# Altium footprint library photounit (2).PCBLIB: 20 footprints (part 2 of 2)
Each footprint in its own frame and in the unit in brackets; x right, y up, seen from the top. Pads: shape width x height; smd on the part's side, far side on the other; paste and mask are expansions set on the pad; w line width, h text height; cw(c..) or ccw(c..) is an arc to the next point about the centre after c.
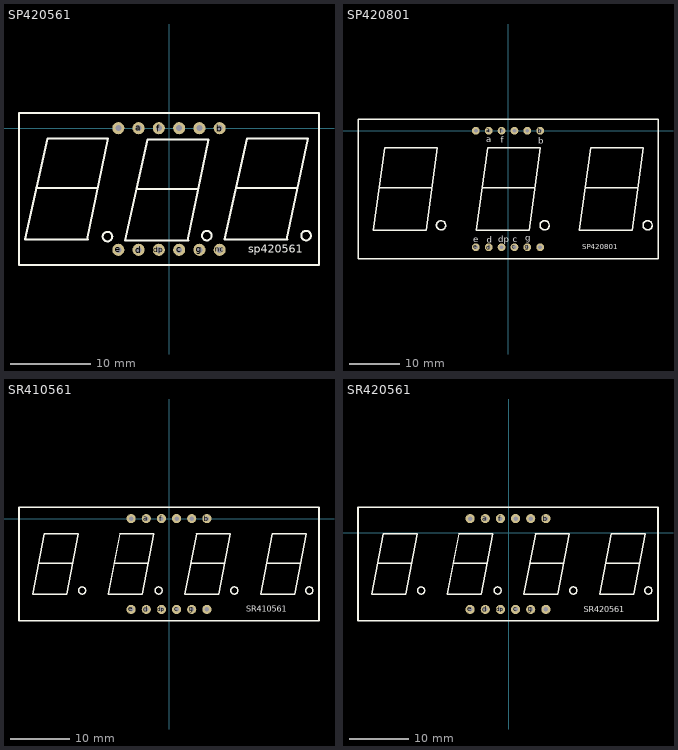
[diagram p1: the footprints below, top view; thin cyan lines are the x and y axes]

## SP420561 [mil]
pads (12):
  round 60 hole 30: a(-150,0) b(250,0) c(50,-600) com1(-250,0) com2(50,0) com3(150,0) d(-150,-600) dp(-50,-600) e(-250,-600) f(-50,0) g(150,-600) nc(250,-600)
TopOverlay:
  circle w10: c676.38,-530 r23.62
  circle w10: c186.38,-530 r23.62
  circle w10: c-303.62,-535 r23.62
  lines w10: -711.34,-550 -600,-50 -300,-50 -404.38,-550 ; -708.66,-550 -400,-550 ; -655,-295 -355,-295 ; -216.34,-555 -105,-55 195,-55 90.62,-555 ; -213.66,-555 95,-555 ; -160,-300 140,-300 ; 273.66,-550 385,-50 685,-50 580.62,-550 ; 276.34,-550 585,-550 ; 330,-295 630,-295 ; -740.16,-674.02 -740.16,74.02 740.16,74.02 740.16,-674.02 -740.16,-674.02
  text "sp420561" at 390,-615 h39.76

## SP420801 [mil]
pads (12):
  round 60 hole 30: a(-150,0) b(250,0) c(50,-905.51) com1(-250,0) com2(50,0) com3(150,0) d(-150,-905.51) dp(-50,-905.51) e(-250,-905.51) f(-50,0) g(150,-905.51) nc(250,-905.51)
TopOverlay:
  circle w10: c1084.57,-735 r35.43
  circle w10: c284.57,-735 r35.43
  circle w10: c-520.43,-735 r35.43
  lines w8: -1002.2,-439.37 -998.26,-443.31 ; -592.75,-443.31 -588.81,-439.37 ; -202.2,-439.37 -198.26,-443.31 ; 207.25,-443.31 211.19,-439.37 ; 597.8,-439.37 601.74,-443.31 ; 1007.25,-443.31 1011.19,-439.37
  lines w10: -998.26,-443.31 -592.75,-443.31 ; -198.26,-443.31 207.25,-443.31 ; 601.74,-443.31 1007.25,-443.31 ; -1165.35,-994.1 -1165.35,88.58 1165.35,88.58 1165.35,-994.1 -1165.35,-994.1 ; -1045.5,-774.02 -636.05,-774.02 -549.44,-132.28 -958.89,-132.28 -1045.5,-774.02 ; -245.5,-774.02 163.94,-774.02 250.56,-132.28 -158.89,-132.28 -245.5,-774.02 ; 554.5,-774.02 963.95,-774.02 1050.56,-132.28 641.11,-132.28 554.5,-774.02
  text "a" at -170,-90 h47.24
  text "f" at -55,-95 h47.24
  text "b" at 235,-100 h47.24
  text "g" at 135,-855 h47.24
  text "c" at 35,-865 h47.24
  text "dp" at -75,-865 h47.24
  text "d" at -165,-870 h47.24
  text "e" at -270,-865 h47.24
  text "SP420801" at 575,-920 h40

## SR410561 [mil]
pads (12):
  round 60 hole 30: a(-150,0) b(250,0) c(50,-600) com1(-250,0) com2(50,0) com3(150,0) com4(250,-600) d(-150,-600) dp(-50,-600) e(-250,-600) f(-50,0) g(150,-600)
TopOverlay:
  circle w10: c-573.62,-475 r23.62
  circle w10: c-68.62,-475 r23.62
  circle w10: c431.38,-475 r23.62
  circle w10: c926.38,-475 r23.62
  lines w10: -854.33,-295 -640,-295 ; -358.27,-295 -140,-295 ; 145.67,-295 365,-295 ; 645.67,-295 865,-295 ; -990.16,-674.02 990.16,-674.02 990.16,74.02 -990.16,74.02 -990.16,-674.02 ; -900,-500 -823.46,-100 -600,-100 -676.54,-500 -900,-500 ; -400,-500 -323.45,-100 -100,-100 -176.54,-500 -400,-500 ; 105,-500 181.54,-100 405,-100 328.45,-500 105,-500 ; 605,-500 681.54,-100 905,-100 828.46,-500 605,-500
  text "SR410561" at 510,-615 h39.37

## SR420561 [mil]
pads (12):
  round 60 hole 30: a(-155,95) b(245,95) c(45,-505) com1(-255,95) com2(45,95) com3(145,95) com4(245,-505) d(-155,-505) dp(-55,-505) e(-255,-505) f(-55,95) g(145,-505)
TopOverlay:
  circle w10: c921.38,-380 r23.62
  circle w10: c426.38,-380 r23.62
  circle w10: c-73.62,-380 r23.62
  circle w10: c-578.62,-380 r23.62
  lines w10: -859.33,-200 -645,-200 ; -363.27,-200 -145,-200 ; 140.67,-200 360,-200 ; 640.67,-200 860,-200 ; -995.16,-579.02 -995.16,169.02 985.16,169.02 985.16,-579.02 -995.16,-579.02 ; -905,-405 -681.54,-405 -605,-5 -828.46,-5 -905,-405 ; -405,-405 -181.54,-405 -105,-5 -328.45,-5 -405,-405 ; 100,-405 323.45,-405 400,-5 176.54,-5 100,-405 ; 600,-405 823.46,-405 900,-5 676.54,-5 600,-405
  text "SR420561" at 495,-525 h39.37